# Altium footprint library MC_TEHCBS_6_01.PcbLib: 1 footprints
Each footprint in its own frame and in the unit in brackets; x right, y up, seen from the top. Pads: shape width x height; smd on the part's side, far side on the other; paste and mask are expansions set on the pad; w line width, h text height; cw(c..) or ccw(c..) is an arc to the next point about the centre after c.
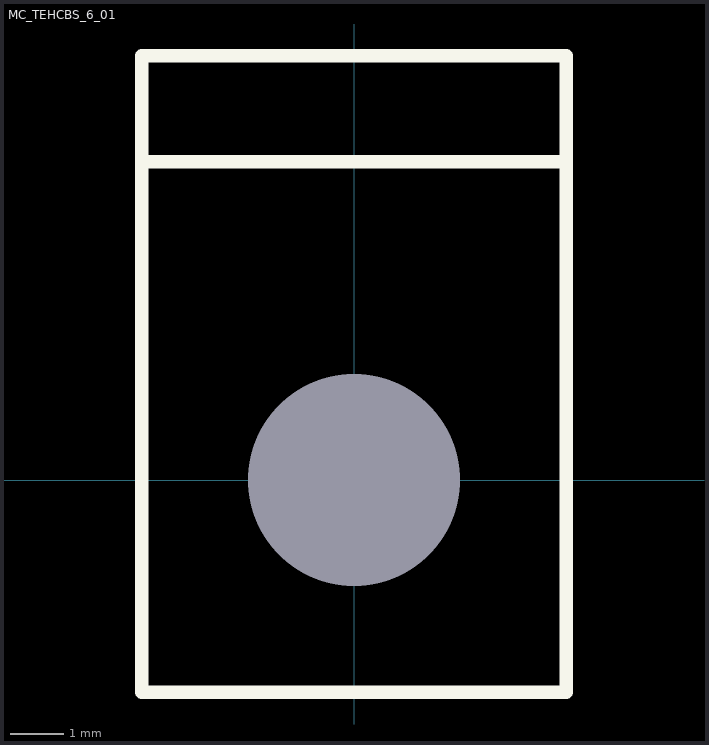
[diagram p0: the footprint, top view; thin cyan lines are the x and y axes]

## MC_TEHCBS_6_01 [mm] "PCB Spacer Quick Release"
pads (1):
  round 0 hole 4 unplated mask+1.25: 0(0,0)
Top Overlay:
  lines w0.254: -4,6 4,6 ; 4,6 4,-4 -4,-4 -4,8 4,8 4,6
3D body: height 13.4, standoff -11.15, extent -3.55,-4.099 3.55,7.8